# EAGLE library part ATSAM3S_B (library squirrel)
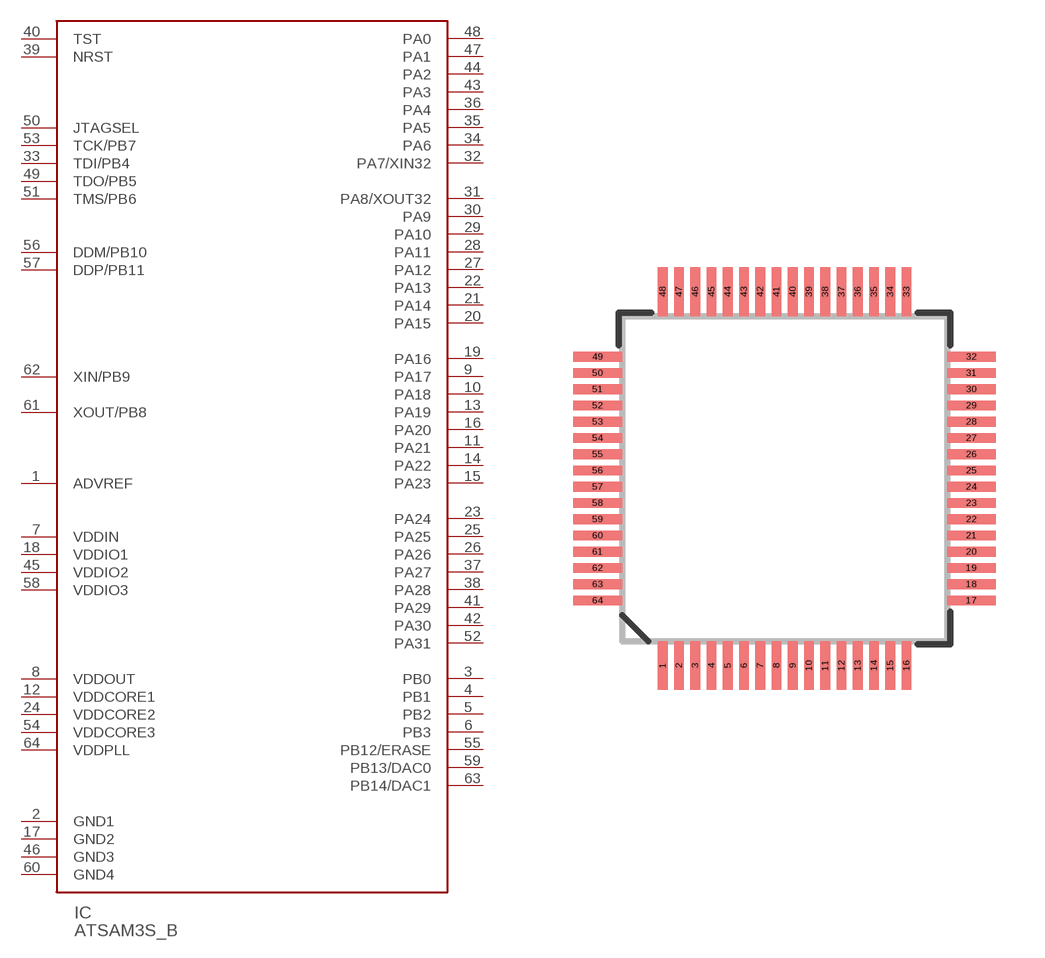
[diagram p5: symbol with the pads of TQFP64_10X10MM; footprint TQFP64_10X10MM]

Designator prefix IC

## ATSAM3S_B  [TQFP64_10X10MM]
1  ADVREF
2  GND1
3  PB0
4  PB1
5  PB2
6  PB3
7  VDDIN
8  VDDOUT
9  PA17
10  PA18
11  PA21
12  VDDCORE1
13  PA19
14  PA22
15  PA23
16  PA20
17  GND2
18  VDDIO1
19  PA16
20  PA15
21  PA14
22  PA13
23  PA24
24  VDDCORE2
25  PA25
26  PA26
27  PA12
28  PA11
29  PA10
30  PA9
31  PA8/XOUT32
32  PA7/XIN32
33  TDI/PB4
34  PA6
35  PA5
36  PA4
37  PA27
38  PA28
39  NRST
40  TST
41  PA29
42  PA30
43  PA3
44  PA2
45  VDDIO2
46  GND3
47  PA1
48  PA0
49  TDO/PB5
50  JTAGSEL
51  TMS/PB6
52  PA31
53  TCK/PB7
54  VDDCORE3
55  PB12/ERASE
56  DDM/PB10
57  DDP/PB11
58  VDDIO3
59  PB13/DAC0
60  GND4
61  XOUT/PB8
62  XIN/PB9
63  PB14/DAC1
64  VDDPLL

## Footprint TQFP64_10X10MM (pad centres in mm)
smd 0.3 x 1.5: 1 -3.75,-5.85; 2 -3.25,-5.85; 3 -2.75,-5.85; 4 -2.25,-5.85; 5 -1.75,-5.85; 6 -1.25,-5.85; 7 -0.75,-5.85; 8 -0.25,-5.85; 9 0.25,-5.85; 10 0.75,-5.85; 11 1.25,-5.85; 12 1.75,-5.85; 13 2.25,-5.85; 14 2.75,-5.85; 15 3.25,-5.85; 16 3.75,-5.85; 33 3.75,5.65; 34 3.25,5.65; 35 2.75,5.65; 36 2.25,5.65; 37 1.75,5.65; 38 1.25,5.65; 39 0.75,5.65; 40 0.25,5.65; 41 -0.25,5.65; 42 -0.75,5.65; 43 -1.25,5.65; 44 -1.75,5.65; 45 -2.25,5.65; 46 -2.75,5.65; 47 -3.25,5.65; 48 -3.75,5.65
smd 1.5 x 0.3: 17 5.75,-3.85; 18 5.75,-3.35; 19 5.75,-2.85; 20 5.75,-2.35; 21 5.75,-1.85; 22 5.75,-1.35; 23 5.75,-0.85; 24 5.75,-0.35; 25 5.75,0.15; 26 5.75,0.65; 27 5.75,1.15; 28 5.75,1.65; 29 5.75,2.15; 30 5.75,2.65; 31 5.75,3.15; 32 5.75,3.65; 49 -5.75,3.65; 50 -5.75,3.15; 51 -5.75,2.65; 52 -5.75,2.15; 53 -5.75,1.65; 54 -5.75,1.15; 55 -5.75,0.65; 56 -5.75,0.15; 57 -5.75,-0.35; 58 -5.75,-0.85; 59 -5.75,-1.35; 60 -5.75,-1.85; 61 -5.75,-2.35; 62 -5.75,-2.85; 63 -5.75,-3.35; 64 -5.75,-3.85